# EAGLE library part AS-ITM-00030 (library tinycircuits)
CONN RECEPT 10POS 3MM SMD 0.5MM
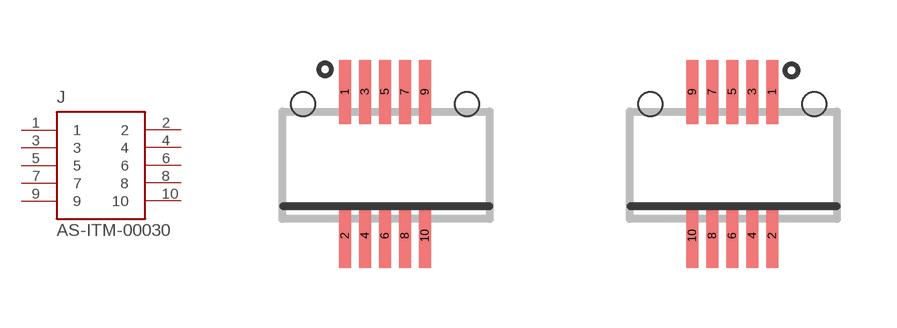
[diagram p9: symbol with the pads of DF12A-10-DS; footprints DF12A-10-DS, DF12A-10-DS-REV]

Designator prefix J

## AS-ITM-00030 (PARTNO: AS-ITM-00030; VALUE: DF12A-10-DS)  [DF12A-10-DS]
1  1
2  2
3  3
4  4
5  5
6  6
7  7
8  8
9  9
10  10

## AS-ITM-00030REV (PARTNO: AS-ITM-00030; VALUE: DF12-10-DS)  [DF12A-10-DS-REV]
Pads as for DF12A-10-DS

## Footprint DF12A-10-DS (pad centres in mm)
smd 0.3 x 1.6: 1 -1,1.8; 2 -1,-1.8; 3 -0.5,1.8; 4 -0.5,-1.8; 5 0,1.8; 6 0,-1.8; 7 0.5,1.8; 8 0.5,-1.8; 9 1,1.8; 10 1,-1.8
hole 0.6 at -2.05,1.5
hole 0.6 at 2.05,1.5

## Footprint DF12A-10-DS-REV (pad centres in mm)
smd 0.3 x 1.6: 1 1,1.8; 2 1,-1.8; 3 0.5,1.8; 4 0.5,-1.8; 5 0,1.8; 6 0,-1.8; 7 -0.5,1.8; 8 -0.5,-1.8; 9 -1,1.8; 10 -1,-1.8
hole 0.6 at -2.05,1.5
hole 0.6 at 2.05,1.5